# Altium schematic symbol library Banana_Blue.SchLib: 1 symbol
Pins are listed as number, name and electrical type; pins without a type are passive.

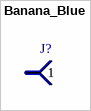
[diagram p0: symbol Banana_Blue]

## Banana_Blue
designator J?  (value not drawn)
Connector, 1x1
pins: 1